# EAGLE library part 7SEG-AC-? (library kiks-discrete)
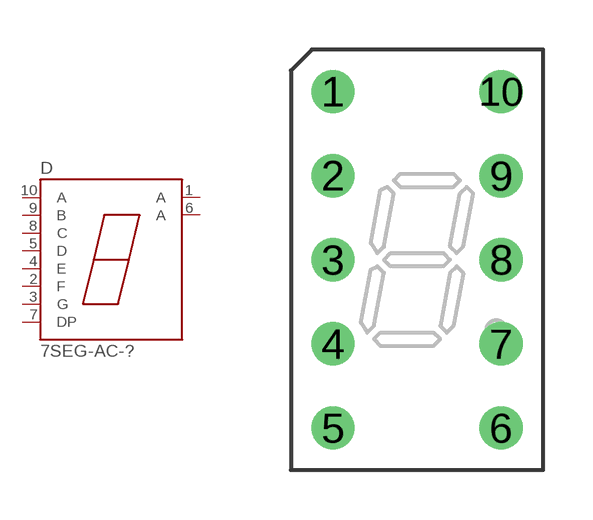
[diagram p1: symbol with the pads of LSHD; footprint LSHD]

Designator prefix D

## 7SEG-AC-LSHD  [LSHD]
1  A
2  F
3  G
4  E
5  D
6  A
7  DP
8  C
9  B
10  A

## Footprint LSHD (pad centres in mm)
drill 0.8 pad 1.3: 1 -2.54,5.08; 2 -2.54,2.54; 3 -2.54,0; 4 -2.54,-2.54; 5 -2.54,-5.08; 6 2.54,-5.08; 7 2.54,-2.54; 8 2.54,0; 9 2.54,2.54; 10 2.54,5.08